# Altium schematic symbol library MolexMicroFit3_4POS_RA.SchLib: 1 symbol
Pins are listed as number, name and electrical type; pins without a type are passive.

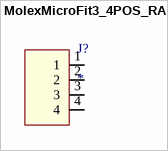
[diagram p0: symbol MolexMicroFit3_4POS_RA]

## MolexMicroFit3_4POS_RA
designator J?
CONN HEADER 4POS R/A W/NAIL SMD / Manufacturer PN: 0436500412
footprint MolexMicroFit3_4POS_RA
pins: 1, 2, 3, 4